# Altium schematic symbol library TME_xxxxS.SchLib: 1 symbol
Pins are listed as number, name and electrical type; pins without a type are passive.

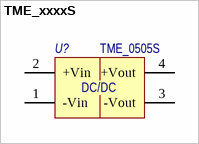
[diagram p0: symbol TME_xxxxS]

## TME_xxxxS
designator U?, comment TME_0505S
DC-DC, 1W, Fixed input voltage, isolated & unregulated single output; Потребление, Вт: 0.2; Назначение: DC-DC, 1W, Fixed input voltage, isolated & unregulated single output; ComponentLink1Description: DataSheet; ComponentLink1URL: https://static.chipdip.ru/lib/672/DOC011672083.pdf; Supplier 1: Digi-Key; Supplier Part Number 1: 1951-2746-ND; Наименование: TME_0505S
footprint PCBComponent_1
pins: 1 -Vin (power), 2 +Vin (power), 3 -Vout (power), 4 +Vout (power)
text: DC/DC